# Altium footprint library PCB - CONNECTOR - SAMTEC IPL1-106-01-L-D-K.PCBLIB: 1 footprints
Each footprint in its own frame and in the unit in brackets; x right, y up, seen from the top. Pads: shape width x height; smd on the part's side, far side on the other; paste and mask are expansions set on the pad; w line width, h text height; cw(c..) or ccw(c..) is an arc to the next point about the centre after c.
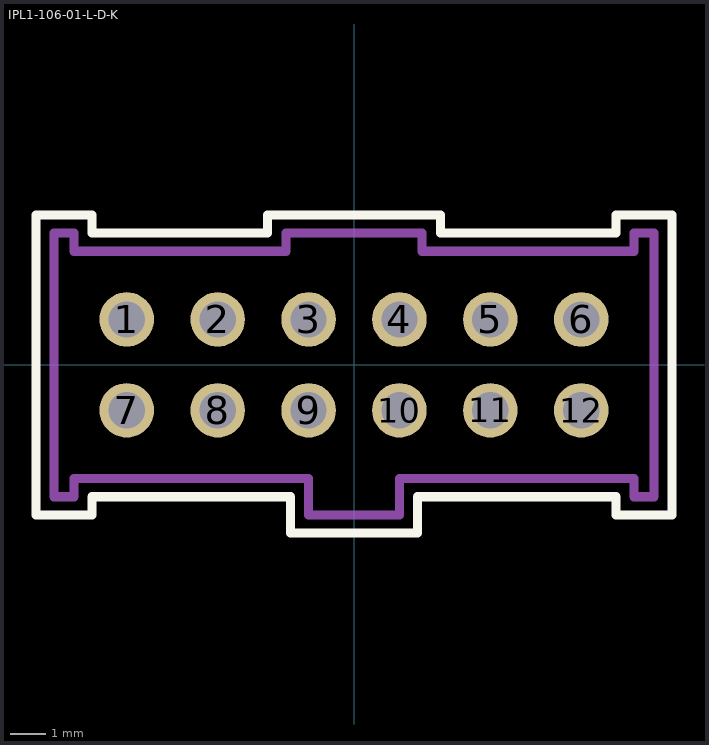
[diagram p0: the footprint, top view; thin cyan lines are the x and y axes]

## IPL1-106-01-L-D-K [mil]
pads (12):
  round 60 hole 40 mask+3: 1(-250,50) 2(-150,50) 3(-50,50) 4(50,50) 5(150,50) 6(250,50) 7(-250,-50) 8(-150,-50) 9(-50,-50) 10(50,-50) 11(150,-50) 12(250,-50)
Top Overlay:
  lines w10: -350,-165 -350,165 -288,165 -288,145 -95,145 -95,165 95,165 95,145 288,145 288,165 350,165 350,-165 288,-165 288,-145 70,-145 70,-185 -70,-185 -70,-145 -288,-145 -288,-165 -350,-165
M5 Assembly Top:
  lines w10: -330,-145 -330,145 -308,145 -308,125 -75,125 -75,145 75,145 75,125 308,125 308,145 330,145 330,-145 308,-145 308,-125 50,-125 50,-165 -50,-165 -50,-125 -308,-125 -308,-145 -330,-145
  text ".Designator" at -98.43,-27.56 h60
3D body "IPL1-106-01-L-D-K.stp": height 320, standoff -120, extent -330,-165 330,145